# Altium schematic symbol library Schematic_Lib.SchLib: 6 symbols
Pins are listed as number, name and electrical type; pins without a type are passive.

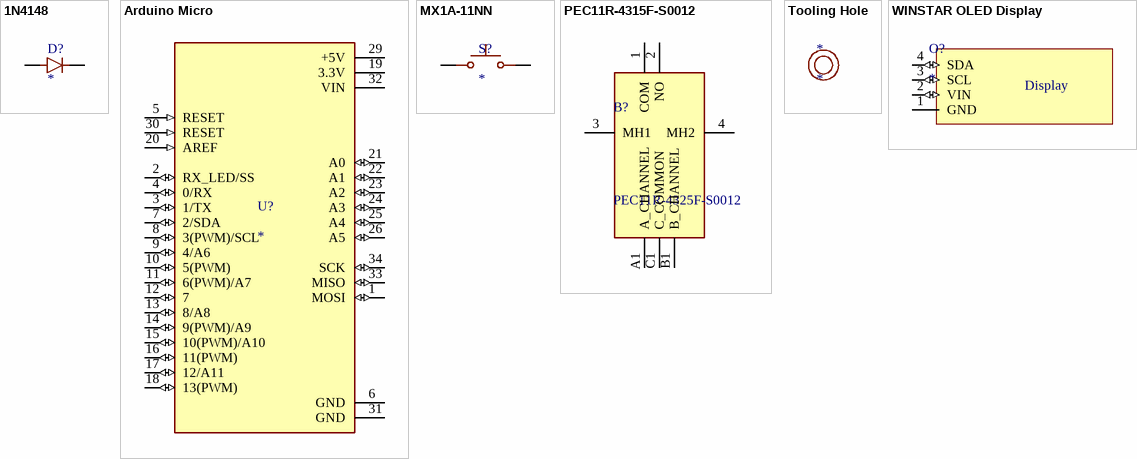
[diagram p0: symbols 1N4148 to WINSTAR OLED Display]

## 1N4148
designator D?
Diode Standard 75V 200mA Surface Mount SOD-523F; MF: ON Semiconductor; MP: 1N4148; SnapEDA_Link: https://www.snapeda.com/parts/1N4148/Onsemi/view-part/?ref=snap; Package: AXIAL LEAD-2 ON Semiconductor; Value: *; Check_prices: https://www.snapeda.com/parts/1N4148/Onsemi/view-part/?ref=eda
footprint 1N4148 Diode
pins: A, K

## Arduino Micro
designator U?
Microcontroller board based on the ATmega32u4; MF: Arduino; MP: Arduino Micro; SnapEDA_Link: https://www.snapeda.com/parts/Arduino%20Micro/Arduino/view-part/?ref=snap; Package: Non-Standard Arduino; Value: *; Check_prices: https://www.snapeda.com/parts/Arduino%20Micro/Arduino/view-part/?ref=eda
footprint Arduino Micro
pins: 1 MOSI (io), 2 RX_LED/SS (io), 3 1/TX (io), 4 0/RX (io), 5 RESET (in), 6 GND (power), 7 2/SDA (io), 8 3(PWM)/SCL (io), 9 4/A6 (io), 10 5(PWM) (io), 11 6(PWM)/A7 (io), 12 7 (io), 13 8/A8 (io), 14 9(PWM)/A9 (io), 15 10(PWM)/A10 (io), 16 11(PWM) (io), 17 12/A11 (io), 18 13(PWM) (io), 19 3.3V (power), 20 AREF (in), 21 A0 (io), 22 A1 (io), 23 A2 (io), 24 A3 (io), 25 A4 (io), 26 A5 (io), 29 +5V (power), 30 RESET (in), 31 GND (power), 32 VIN (power), 33 MISO (io), 34 SCK (io)

## MX1A-11NN
designator S?
Switch,Key,SPST-NO,Keyboard,Low Profile,10mA,12VDC,Face Place Mount,Std Force | Cherry Americas MX1A-11NN; SnapEDA_Link: https://www.snapeda.com/parts/MX1A-11NN/Cherry/view-part/?ref=snap; Package: None; Value: *; MF: Cherry; MP: MX1A-11NN; Check_prices: https://www.snapeda.com/parts/MX1A-11NN/Cherry/view-part/?ref=eda
footprint SW_MX1A-11NN
pins: 1, 2

## PEC11R-4315F-S0012
designator B?, comment PEC11R-4325F-S0012
Rotary Encoder Mechanical 12 Quadrature (Incremental) Vertical; Manufacturer_Name: Bourns; Geometry.Height: 31.5mm; Manufacturer_Part_Number: PEC11R-4325F-S0012; Mouser Part Number: 652-PEC11R4325FS0012; Mouser Price/Stock: https://www.mouser.co.uk/ProductDetail/Bourns/PEC11R-4325F-S0012?qs=Zq5ylnUbLm4xKJFZnkQTMQ%3D%3D; Arrow Part Number: *; Arrow Price/Stock: *; Datasheet Link: https://www.bourns.com/docs/product-datasheets/pec11r.pdf
footprint PEC11R-4315F-S0012
pins: 1 COM, 2 NO, 3 MH1, 4 MH2, A1 A_CHANNEL, B1 B_CHANNEL, C1 C_COMMON

## Tooling Hole
designator *
footprint Tooling Hole

## WINSTAR OLED Display
designator O?
WEA012832FWPP3N00000; ComponentLink1Description: New link; ComponentLink1URL: https://www.soselectronic.com/pl-pl/products/winstar/wea012832fwpp3n00000-401631
footprint WINSTAR OLED Display (WEA012832FWPP3N00000)
pins: 1 GND, 2 VIN (io), 3 SCL (io), 4 SDA (io)
text: Display